# Altium footprint library WR-CRD.PcbLib: 21 footprints (part 1 of 2)
Each footprint in its own frame and in the unit in brackets; x right, y up, seen from the top. Pads: shape width x height; smd on the part's side, far side on the other; paste and mask are expansions set on the pad; w line width, h text height; cw(c..) or ccw(c..) is an arc to the next point about the centre after c.
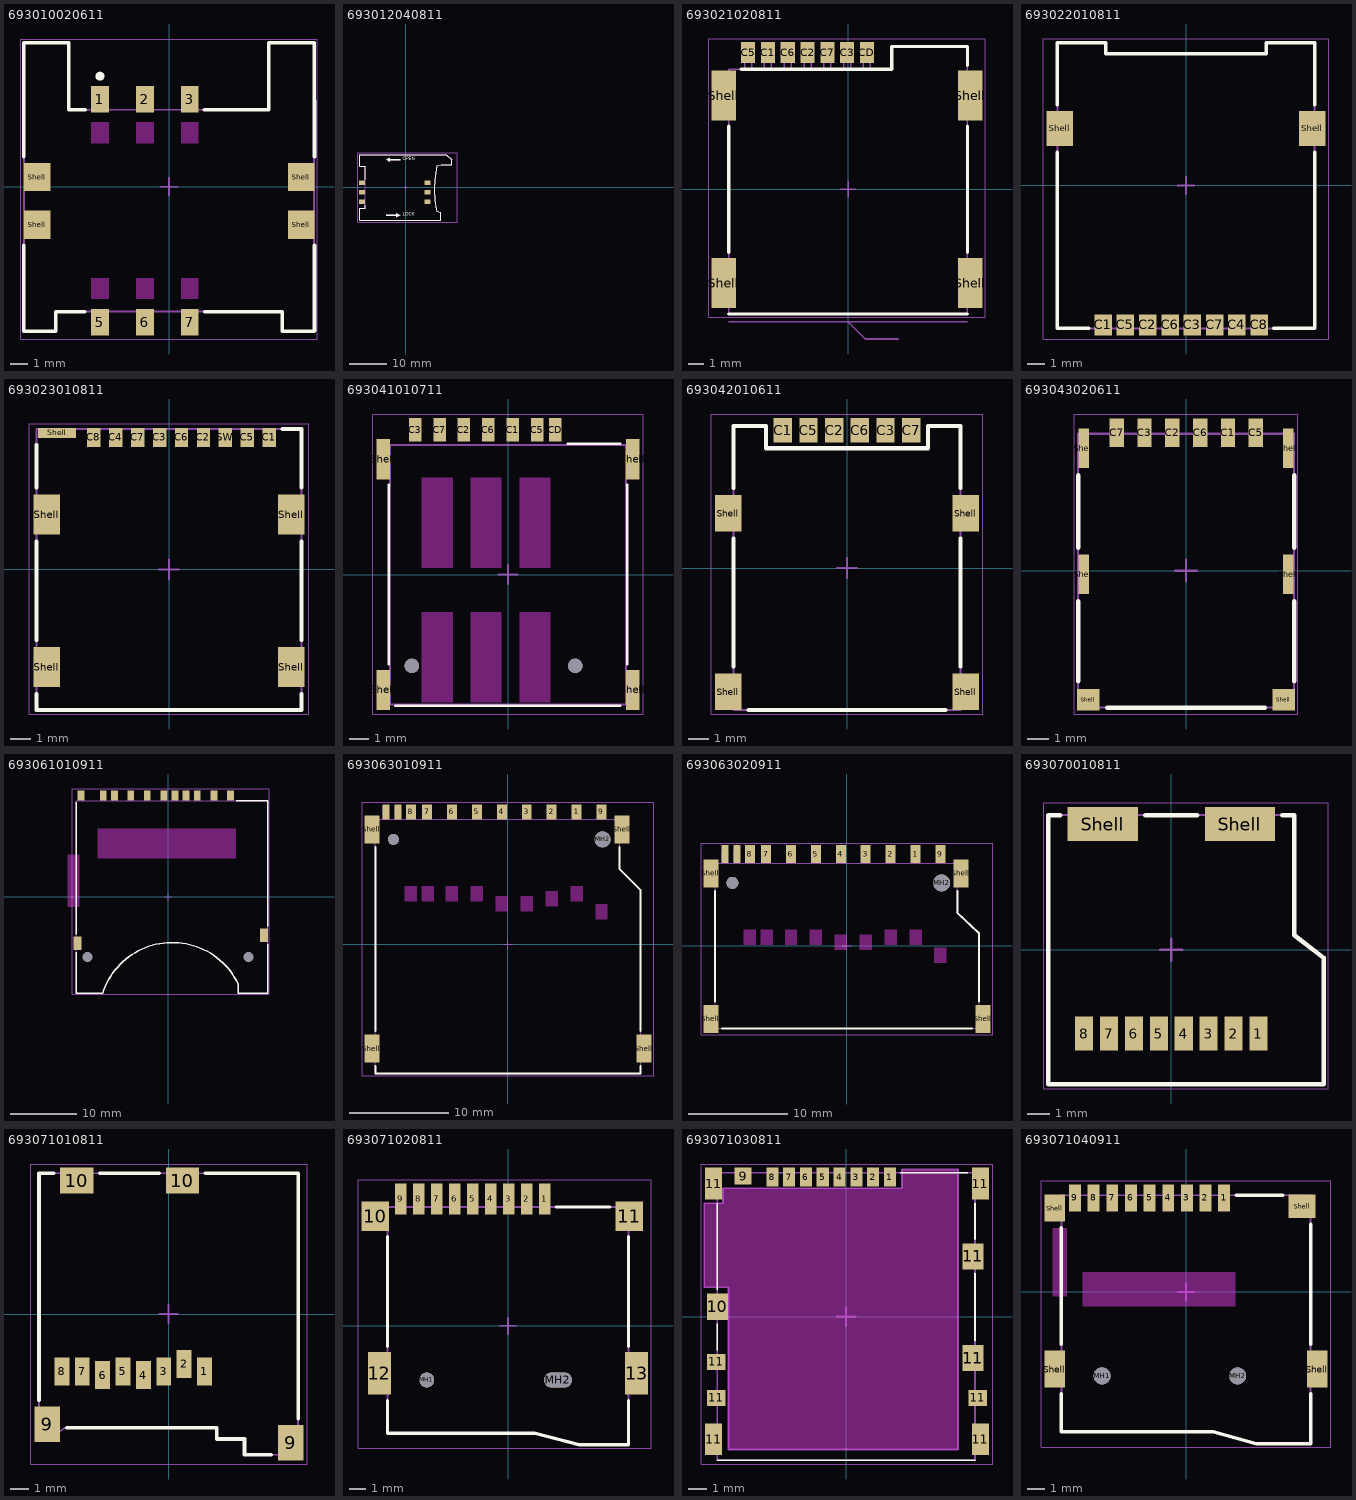
[diagram p0: the footprints below, top view; thin cyan lines are the x and y axes]

## 693010020611 [mm] "SIM CARD CONNECTOR HEADER SHIELD ED 6PINS"
height 1.8
pads (10):
  rect 1x1.5 smd: 1(-3.9,4.95) 2(-1.36,4.95) 3(1.18,4.95) 5(-3.9,-7.65) 6(-1.36,-7.65) 7(1.18,-7.65)
  rect 1.5x1.6 smd: Shell(-7.44,-2.15) Shell(-7.44,0.55) Shell(7.46,-2.15) Shell(7.46,0.55)
Top Layer keep-out:
  rectangle: 0.68,2.45 1.68,3.65
  rectangle: -1.86,2.45 -0.86,3.65
  rectangle: -4.4,2.45 -3.4,3.65
  region: 1.68,-5.15 0.68,-5.15 0.68,-6.35 1.68,-6.35
  region: -0.86,-5.15 -1.86,-5.15 -1.86,-6.35 -0.86,-6.35
  region: -3.4,-5.15 -4.4,-5.15 -4.4,-6.35 -3.4,-6.35
Top Overlay:
  circle w0.25: c-3.9,6.25 r0.125
  lines w0.2: -8.2,-3.3 -8.2,-8.15 -6.4,-8.15 -6.4,-7.05 -4.75,-7.05 ; -8.2,1.7 -8.2,8.15 -5.67,8.15 -5.67,4.35 -4.72,4.35 ; 2,4.35 5.63,4.35 5.63,8.15 ; 2.03,-7.05 6.4,-7.05 6.4,-8.15 8.2,-8.15 8.22,-8.13 8.22,-3.3 ; 8.22,1.7 8.2,8.15 5.63,8.15 ; 5.63,8.15 5.63,8.15
Top Assembly:
  lines w0.1: -4.2,-7.05 -4.2,-8.05 -3.6,-8.05 -3.6,-7.05 ; -4.2,4.35 -4.2,5.35 -3.6,5.35 -3.6,4.35 ; -1.66,-7.05 -1.66,-8.05 -1.06,-8.05 -1.06,-7.05 ; -1.66,4.35 -1.66,5.35 -1.06,5.35 -1.06,4.35 ; 0.88,-7.05 0.88,-8.05 1.48,-8.05 1.48,-7.05 ; 0.88,4.35 0.88,5.35 1.48,5.35 1.48,4.35 ; 5.63,8.15 5.63,4.35 -5.67,4.35 -5.67,8.15 -8.2,8.15 -8.2,-8.15 -6.4,-8.15 -6.4,-7.05 6.4,-7.05 6.4,-8.15 8.2,-8.15 8.2,8.15 5.63,8.15 ; 5.63,8.15 5.63,8.15
Top Designator:
  text ".Designator" at -3.647,-0.357 h1
Top 3D Body:
  lines w0.1: -4.2,-7.05 -4.2,-8.05 -3.6,-8.05 -3.6,-7.05 ; -4.2,4.35 -4.2,5.35 -3.6,5.35 -3.6,4.35 ; -1.66,-7.05 -1.66,-8.05 -1.06,-8.05 -1.06,-7.05 ; -1.66,4.35 -1.66,5.35 -1.06,5.35 -1.06,4.35 ; 0.88,-7.05 0.88,-8.05 1.48,-8.05 1.48,-7.05 ; 0.88,4.35 0.88,5.35 1.48,5.35 1.48,4.35 ; 5.63,8.15 5.63,4.35 -5.67,4.35 -5.67,8.15 -8.2,8.15 -8.2,-8.15 -6.4,-8.15 -6.4,-7.05 6.4,-7.05 6.4,-8.15 8.2,-8.15 8.2,8.15 5.63,8.15 ; 5.63,8.15 5.63,8.15
Top Courtyard:
  lines w0.05: -8.39,-8.6 8.39,-8.6 8.39,8.35 -8.39,8.35 -8.39,-8.6
Top Component Center:
  lines w0.1: -0.5,0 0.5,0 ; 0,-0.5 0,0.5
3D body "693010020611.stp": height 1.83, standoff -0.02, extent -8.2,-8.15 8.2,8.15

## 693012040811 [mm] "Mini SIM_Hinge type_6 pins"
height 1.8
pads (6):
  rect 1.6x1.2 smd: C1(-11.75,-3.9) C2(-11.75,-1.36) C3(-11.75,1.18) C5(5.75,-3.9) C6(5.75,-1.36) C7(5.75,1.18)
Top Overlay:
  region: -1.55,-7.459 -2.05,-7.709 -2.55,-7.959 -2.55,-7.609 -5.3,-7.609 -5.3,-7.309 -2.55,-7.309 -2.55,-6.959 -2.05,-7.459 -2.55,-6.959
  region: -5.3,7.341 -4.8,7.591 -4.3,7.841 -4.3,7.491 -1.55,7.491 -1.55,7.191 -4.3,7.191 -4.3,6.841 -4.8,7.341 -4.3,6.841
  lines w0.2: -12.3,-8.859 -12.3,-5.579 -10.9,-5.579 -10.9,-4.829 ; -12.3,8.741 -12.3,5.561 -10.9,5.561 -10.9,2.071 ; -12.28,-8.859 9.25,-8.859 9.25,-6.609 8.255,-6.434 cw(c34.968,0.068) 7.994,-5.25 cw(c37.494,-0.456) 8.252,5.719 ; -12.28,8.741 10.85,8.741 12.302,7.338 12.302,6.089 9.45,6.089 8.251,5.722
  text "LOCK" at -0.9,-7.959 h1.5
  text "OPEN" at -0.9,6.841 h1.5
Top Assembly:
  region: -5.3,7.341 -4.8,7.591 -4.3,7.841 -4.3,7.491 -1.55,7.491 -1.55,7.191 -4.3,7.191 -4.3,6.841 -4.8,7.341 -4.3,6.841
  region: -1.55,-7.459 -2.05,-7.709 -2.55,-7.959 -2.55,-7.609 -5.3,-7.609 -5.3,-7.309 -2.55,-7.309 -2.55,-6.959 -2.05,-7.459 -2.55,-6.959
  lines w0.1: -12.3,-8.859 -12.3,-5.579 -10.9,-5.579 -10.9,5.561 -12.3,5.561 -12.3,8.741 ; -12.28,-8.859 9.25,-8.859 9.25,-6.609 8.255,-6.434 cw(c34.968,0.068) 7.994,-5.25 cw(c37.494,-0.456) 8.252,5.719 ; -12.28,8.741 10.85,8.741 12.302,7.338 12.302,6.089 9.45,6.089 8.251,5.722
  text "OPEN" at -0.9,6.841 h1.5
  text "LOCK" at -0.9,-7.959 h1.5
Top Designator:
  text ".Designator" at -3.647,-0.357 h1
Top 3D Body:
  region: -5.3,7.341 -4.8,7.591 -4.3,7.841 -4.3,7.491 -1.55,7.491 -1.55,7.191 -4.3,7.191 -4.3,6.841 -4.8,7.341 -4.3,6.841
  region: -1.55,-7.459 -2.05,-7.709 -2.55,-7.959 -2.55,-7.609 -5.3,-7.609 -5.3,-7.309 -2.55,-7.309 -2.55,-6.959 -2.05,-7.459 -2.55,-6.959
  lines w0.1: -12.3,-8.859 -12.3,-5.579 -10.9,-5.579 -10.9,5.561 -12.3,5.561 -12.3,8.741 ; -12.28,-8.859 9.25,-8.859 9.25,-6.609 8.255,-6.434 cw(c34.968,0.068) 7.994,-5.25 cw(c37.494,-0.456) 8.252,5.719 ; -12.28,8.741 10.85,8.741 12.302,7.338 12.302,6.089 9.45,6.089 8.251,5.722
  text "OPEN" at -0.9,6.841 h1.5
  text "LOCK" at -0.9,-7.959 h1.5
Top Courtyard:
  lines w0.05: -12.8,-9.409 -12.8,9.291 13.7,9.291 13.7,-9.409 -12.8,-9.409
Top Component Center:
  lines w0.1: -0.5,0 0.5,0 ; 0,-0.5 0,0.5
3D body "693012040811.stp": height 1.85, standoff -0.04, extent -12.3,-8.859 12.3,8.859

## 693021020811 [mm] "MicroSIM Card  Connector SMT"
height 1.35
pads (11):
  rect 0.9x1.35 smd: C1(-5.14,8.765) C2(-2.6,8.765) C3(-0.06,8.765) C5(-6.41,8.765) C6(-3.87,8.765) C7(-1.33,8.765) CD(1.21,8.765)
  rect 1.55x3.2 smd: Shell(-7.97,-6.01) Shell(-7.97,6.01) Shell(7.83,-6.01) Shell(7.83,6.01)
Top Overlay:
  lines w0.2: -7.65,-8 7.65,-8 ; -7.65,-4.05 -7.65,4.05 ; -6.85,7.7 2.8,7.7 2.8,9.16 7.65,9.16 7.65,7.95 ; 7.65,-4.05 7.65,4.05
Assembly Notes:
  lines w0.1: -7.65,-8.5 7.65,-8.5 ; 0,-8.5 1.1,-9.6 3.2,-9.6
  text "PCB EDGE" at 3.549,-9.92 h1
Top Assembly:
  lines w0.1: -7.65,-6.76 -8.25,-6.76 -8.25,-5.26 -7.65,-5.26 ; -7.65,5.26 -8.25,5.26 -8.25,6.76 -7.65,6.76 ; -6.635,7.7 -6.635,9 -6.185,9 -6.185,7.7 ; -5.365,7.7 -5.365,9 -4.915,9 -4.915,7.7 ; -4.095,7.7 -4.095,9 -3.645,9 -3.645,7.7 ; -2.825,7.7 -2.825,9 -2.375,9 -2.375,7.7 ; -1.555,7.7 -1.555,9 -1.105,9 -1.105,7.7 ; -0.285,7.7 -0.285,9 0.165,9 0.165,7.7 ; 0.985,7.7 0.985,9 1.435,9 1.435,7.7 ; 7.65,-6.76 8.25,-6.76 8.25,-5.26 7.65,-5.26 ; 7.65,5.26 8.25,5.26 8.25,6.76 7.65,6.76 ; -7.65,-8 -7.65,7.7 2.8,7.7 2.8,9.16 7.65,9.16 7.65,-8 -7.65,-8
Top Designator:
  text ".Designator" at -3.647,-0.357 h1
Top 3D Body:
  lines w0.1: -7.65,-6.76 -8.25,-6.76 -8.25,-5.26 -7.65,-5.26 ; -7.65,5.26 -8.25,5.26 -8.25,6.76 -7.65,6.76 ; -6.635,7.7 -6.635,9 -6.185,9 -6.185,7.7 ; -5.365,7.7 -5.365,9 -4.915,9 -4.915,7.7 ; -4.095,7.7 -4.095,9 -3.645,9 -3.645,7.7 ; -2.825,7.7 -2.825,9 -2.375,9 -2.375,7.7 ; -1.555,7.7 -1.555,9 -1.105,9 -1.105,7.7 ; -0.285,7.7 -0.285,9 0.165,9 0.165,7.7 ; 0.985,7.7 0.985,9 1.435,9 1.435,7.7 ; 7.65,-6.76 8.25,-6.76 8.25,-5.26 7.65,-5.26 ; 7.65,5.26 8.25,5.26 8.25,6.76 7.65,6.76 ; -7.65,-8 -7.65,7.7 2.8,7.7 2.8,9.16 7.65,9.16 7.65,-8 -7.65,-8
Top Courtyard:
  lines w0.05: -8.945,-8.2 -8.945,9.64 8.805,9.64 8.805,-8.2 -8.945,-8.2
Top Component Center:
  lines w0.1: -0.5,0 0.5,0 ; 0,-0.5 0,0.5
3D body "693021020811.stp": height 1.32, standoff -0.03, extent -8.275,-8 8.224,9.16

## 693022010811 [mm] "Micro SIM Card Connector (Mega SIM) Hinge - 8 Pins"
height 1.95
pads (10):
  rect 1x1.2 smd: C1(-4.72,-7.95) C2(-2.18,-7.95) C3(0.36,-7.95) C4(2.9,-7.95) C5(-3.45,-7.95) C6(-0.91,-7.95) C7(1.63,-7.95) C8(4.17,-7.95)
  rect 1.5x2 smd: Shell(-7.2,3.25) Shell(7.2,3.25)
Top Overlay:
  lines w0.2: -7.33,1.9 -7.33,-8.15 -5.55,-8.15 ; -7.33,4.6 -7.33,8.15 -4.58,8.15 -4.58,7.5 4.58,7.5 4.58,8.15 7.33,8.15 7.33,4.6 ; 5,-8.15 7.33,-8.15 7.33,1.9
Top Assembly:
  lines w0.1: -7.33,-8.15 -7.33,8.15 -4.58,8.15 -4.58,7.5 4.58,7.5 4.58,8.15 7.33,8.15 7.33,-8.15 -7.33,-8.15
Top Designator:
  text ".Designator" at -3.647,-0.357 h1
Top 3D Body:
  lines w0.1: -7.33,-8.15 -7.33,8.15 -4.58,8.15 -4.58,7.5 4.58,7.5 4.58,8.15 7.33,8.15 7.33,-8.15 -7.33,-8.15
Top Courtyard:
  lines w0.05: -8.15,-8.75 8.15,-8.75 8.15,8.35 -8.15,8.35 -8.15,-8.75
Top Component Center:
  lines w0.1: -0.5,0 0.5,0 ; 0,-0.5 0,0.5
3D body "693022010811.stp": height 2.09, standoff -0.04, extent -7.7,-8.16 7.7,8.14

## 693023010811 [mm] "Micro SIM Card Connector (Mega SIM) Push & Pull - with Card Detection - 8 Pins"
height 0.76
pads (14):
  rect 0.67x0.95 smd: C1(5.03,6.625) C2(1.73,6.625) C3(-0.47,6.625) C4(-2.67,6.625) C5(3.93,6.625) C6(0.63,6.625) C7(-1.57,6.625) C8(-3.77,6.625) SW(2.83,6.625)
  rect 1.35x2 smd: Shell(-6.13,-4.9) Shell(-6.13,2.75) Shell(6.13,-4.9) Shell(6.13,2.75)
  rect 1.89x0.5 smd: Shell(-5.615,6.85)
Top Overlay:
  lines w0.2: -6.65,-6.25 -6.65,-7.05 6.65,-7.05 6.65,-6.25 ; -6.65,-3.55 -6.65,1.4 ; -6.65,4.1 -6.65,6.25 ; 5.7,7.05 6.65,7.05 6.65,4.1 ; 6.65,-3.55 6.65,1.4
Top Assembly:
  lines w0.1: -6.65,-7.05 -6.65,7.05 6.65,7.05 6.65,-7.05 -6.65,-7.05
Top Designator:
  text ".Designator" at -3.647,-0.357 h1
Top 3D Body:
  lines w0.1: -6.65,-7.05 -6.65,7.05 6.65,7.05 6.65,-7.05 -6.65,-7.05
Top Courtyard:
  lines w0.05: -7.005,-7.25 -7.005,7.3 7.005,7.3 7.005,-7.25 -7.005,-7.25
Top Component Center:
  lines w0.1: -0.5,0 0.5,0 ; 0,-0.5 0,0.5
3D body "693023010811.stp": height 1.3, standoff 0.03, extent -6.65,-7.05 6.65,7.05

## 693041010711 [mm] "NanoSIM Push-Push CD SMT"
height 1.37
pads (13):
  rect 0.65x1.23 smd: C1(0.25,7.54) C2(-2.29,7.54) C3(-4.83,7.54) C5(1.52,7.54) C6(-1.02,7.54) C7(-3.56,7.54) CD(2.47,7.54)
  round 0.75 hole 0.75 unplated: NPTH1(-5,-4.75) NPTH2(3.5,-4.75)
  rect 0.7x2.1 smd: Shell(-6.495,-6) Shell(-6.495,6) Shell(6.495,-6) Shell(6.495,6)
Top Layer keep-out:
  region: -1.94,-1.95 -0.34,-1.95 -0.34,-6.65 -1.94,-6.65
  region: -4.48,-1.95 -2.88,-1.95 -2.88,-6.65 -4.48,-6.65
  region: 0.6,-1.95 2.2,-1.95 2.2,-6.65 0.6,-6.65
  region: -1.94,5.05 -0.34,5.05 -0.34,0.35 -1.94,0.35
  region: -4.48,5.05 -2.88,5.05 -2.88,0.35 -4.48,0.35
  region: 0.6,5.05 2.2,5.05 2.2,0.35 0.6,0.35
Top Overlay:
  lines w0.127: -6.208,-4.663 -6.208,4.687 ; -5.858,-6.813 5.841,-6.813 ; 3.1,6.813 5.85,6.813 ; 6.208,-4.663 6.208,4.687
Top Assembly:
  lines w0.1: -6.145,-6.75 6.145,-6.75 6.145,6.75 -6.145,6.75 -6.145,-6.75
Top Designator:
  text ".Designator" at -3.647,-0.357 h1
Top 3D Body:
  lines w0.1: -6.145,-6.75 6.145,-6.75 6.145,6.75 -6.145,6.75 -6.145,-6.75
Top Courtyard:
  lines w0.05: -7.045,-7.25 7.045,-7.25 7.045,8.355 -7.045,8.355 -7.045,-7.25
Top Component Center:
  lines w0.1: -0.5,0 0.5,0 ; 0,-0.5 0,0.5
3D body "693041010711.stp": height 1.47, standoff -0.4, extent -6.545,-6.75 6.545,7.85

## 693042010611 [mm] "NanoSIM Hinge SMT"
height 1.5
pads (10):
  rect 0.9x1.2 smd: C1(-3.175,6.8) C2(-0.635,6.8) C3(1.905,6.8) C5(-1.905,6.8) C6(0.635,6.8) C7(3.175,6.8)
  rect 1.3x1.8 smd: Shell(-5.85,-6.1) Shell(-5.85,2.7) Shell(5.85,-6.1) Shell(5.85,2.7)
Top Overlay:
  lines w0.2: -5.6,-4.85 -5.6,1.45 ; -5.6,3.95 -5.6,7 -4,7 -4,5.91 4,5.91 4,7 5.6,7 5.6,3.95 ; -4.85,-7 4.85,-7 ; 5.6,-4.85 5.6,1.45
Top Assembly:
  lines w0.1: -5.6,-7 5.6,-7 5.6,7 4,7 4,5.91 -4,5.91 -4,7 -5.6,7 -5.6,-7
Top Designator:
  text ".Designator" at -3.647,-0.357 h1
Top 3D Body:
  lines w0.1: -5.6,-7 5.6,-7 5.6,7 4,7 4,5.91 -4,5.91 -4,7 -5.6,7 -5.6,-7
Top Courtyard:
  lines w0.05: -6.7,-7.2 6.7,-7.2 6.7,7.6 -6.7,7.6 -6.7,-7.2
Top Component Center:
  lines w0.1: -0.5,0 0.5,0 ; 0,-0.5 0,0.5
3D body "693042010611.stp": height 1.51, standoff 0, extent -6.2,-7 6.2,7.1

## 693043020611 [mm] "Nano SIM Card Connector Push & Pull - 6 Pins"
height 1.2
pads (12):
  rect 0.65x1.3 smd: C1(1.91,6.3) C2(-0.63,6.3) C3(-1.9,6.3) C5(3.18,6.3) C6(0.64,6.3) C7(-3.17,6.3)
  rect 0.48x1.8 smd: Shell(-4.67,-0.17) Shell(-4.67,5.58) Shell(4.66,-0.17) Shell(4.66,5.58)
  rect 1.03x1 smd: Shell(-4.465,-5.89) Shell(4.465,-5.89)
Top Overlay:
  lines w0.2: -4.93,-5.05 -4.93,-1.4 ; -4.93,1.05 -4.93,4.35 ; -3.6,-6.25 3.6,-6.25 ; 4.93,-5.05 4.93,-1.4 ; 4.93,1.05 4.93,4.35
Top Assembly:
  lines w0.1: -4.93,-6.25 4.93,-6.25 4.93,6.25 -4.93,6.25 -4.93,-6.25
Top Designator:
  text ".Designator" at -3.647,-0.357 h1
Top 3D Body:
  lines w0.1: -4.93,-6.25 4.93,-6.25 4.93,6.25 -4.93,6.25 -4.93,-6.25
Top Courtyard:
  lines w0.05: -5.105,-6.54 -5.105,7.15 5.105,7.15 5.105,-6.54 -5.105,-6.54
Top Component Center:
  lines w0.1: -0.5,0 0.5,0 ; 0,-0.5 0,0.5
3D body "693043020611.stp": height 1.2, standoff -0.01, extent -4.926,-6.25 4.936,6.25

## 693061010911 [mm] "SD Card Connector Push & Push - with Card Detection - 9 Pins"
height 2.9
pads (15):
  rect 1x1.5 smd: 1(6.9,15.26) 2(4.4,15.26) 3(1.05,15.26) 4(-0.6,15.26) 5(-3.1,15.26) 6(-5.6,15.26) 7(-8.03,15.26) 8(-9.73,15.26) 9(9.4,15.26) CD(2.7,15.26) WP(-13.08,15.26)
  round 1.4 hole 1.5 unplated: MH1(-12.1,-9.05) MH2(12.1,-9.05)
  rect 1.2x2 smd: Shell(-13.6,-6.95) Shell(14.4,-5.75)
Top Layer keep-out:
  rectangle: -15.1,-1.55 -13.3,6.4
  rectangle: -10.58,5.8 10.25,10.3
Top Overlay:
  lines w0.2: -13.8,-8.3 -13.8,-14.45 -9.827,-14.45 ; -13.8,-5.6 -13.8,14.2 ; -9.82,-14.452 cw(c0.64,-17.856) 10.531,-13.042 ; 10.25,14.45 15,14.45 15,-4.4 ; 10.53,-13.043 10.53,-14.45 15,-14.45 15,-7.1
Top Assembly:
  lines w0.1: -13.21,14.45 -13.21,15.45 -12.67,15.45 -12.67,14.45 ; -9.98,14.45 -9.98,15.6 -9.48,15.6 -9.48,14.45 ; -9.827,-14.45 -13.8,-14.45 -13.8,14.45 15,14.45 15,-14.45 10.53,-14.45 10.53,-13.043 ; -9.82,-14.452 cw(c0.64,-17.856) 10.531,-13.042 ; -8.28,14.45 -8.28,15.6 -7.78,15.6 -7.78,14.45 ; -5.85,14.45 -5.85,15.6 -5.35,15.6 -5.35,14.45 ; -3.35,14.45 -3.35,15.6 -2.85,15.6 -2.85,14.45 ; -0.85,14.45 -0.85,15.6 -0.35,15.6 -0.35,14.45 ; 0.8,14.45 0.8,15.6 1.3,15.6 1.3,14.45 ; 2.45,14.45 2.45,15.6 2.95,15.6 2.95,14.45 ; 4.15,14.45 4.15,15.6 4.65,15.6 4.65,14.45 ; 6.65,14.45 6.65,15.6 7.15,15.6 7.15,14.45 ; 9.15,14.45 9.15,15.6 9.65,15.6 9.65,14.45
Top Designator:
  text ".Designator" at -3.647,-0.357 h1
Top 3D Body:
  lines w0.1: -13.21,14.45 -13.21,15.45 -12.67,15.45 -12.67,14.45 ; -9.98,14.45 -9.98,15.6 -9.48,15.6 -9.48,14.45 ; -9.827,-14.45 -13.8,-14.45 -13.8,14.45 15,14.45 15,-14.45 10.53,-14.45 10.53,-13.043 ; -9.82,-14.452 cw(c0.64,-17.856) 10.531,-13.042 ; -8.28,14.45 -8.28,15.6 -7.78,15.6 -7.78,14.45 ; -5.85,14.45 -5.85,15.6 -5.35,15.6 -5.35,14.45 ; -3.35,14.45 -3.35,15.6 -2.85,15.6 -2.85,14.45 ; -0.85,14.45 -0.85,15.6 -0.35,15.6 -0.35,14.45 ; 0.8,14.45 0.8,15.6 1.3,15.6 1.3,14.45 ; 2.45,14.45 2.45,15.6 2.95,15.6 2.95,14.45 ; 4.15,14.45 4.15,15.6 4.65,15.6 4.65,14.45 ; 6.65,14.45 6.65,15.6 7.15,15.6 7.15,14.45 ; 9.15,14.45 9.15,15.6 9.65,15.6 9.65,14.45
Top Courtyard:
  lines w0.05: -14.4,-14.65 -14.4,16.21 15.2,16.21 15.2,-14.65 -14.4,-14.65
Top Component Center:
  lines w0.1: -0.5,0 0.5,0 ; 0,-0.5 0,0.5
3D body "693061010911.stp": height 2.94, standoff -0.46, extent -13.86,-14.45 15.04,15.599

## 693063010911 [mm] "SD Card Connector Push & Pull - with Card Detection - 9 Pins"
height 2.6
pads (17):
  rect 1x1.5 smd: 1(6.88,13.3) 2(4.38,13.3) 3(1.88,13.3) 4(-0.62,13.3) 5(-3.12,13.3) 6(-5.62,13.3) 7(-8.12,13.3) 8(-9.75,13.3) 9(9.38,13.3)
  rect 0.7x1.5 smd: 10(-11.05,13.3) 11(-12.25,13.3)
  round 1.1 hole 1.1 unplated: MH1(-11.5,10.55)
  round 1.6 hole 1.6 unplated: MH2(9.5,10.55)
  rect 1.5x2.8 smd: Shell(-13.65,-10.45) Shell(-13.65,11.55) Shell(11.45,11.55) Shell(13.65,-10.45)
Top Layer keep-out:
  region: 8.78,4.05 9.98,4.05 9.98,2.55 8.78,2.55
  region: -10.35,5.85 -9.15,5.85 -9.15,4.35 -10.35,4.35
  region: -8.65,5.85 -7.45,5.85 -7.45,4.35 -8.65,4.35
  region: -6.225,5.85 -5.025,5.85 -5.025,4.35 -6.225,4.35
  region: -3.725,5.85 -2.525,5.85 -2.525,4.35 -3.725,4.35
  region: 6.275,5.85 7.475,5.85 7.475,4.35 6.275,4.35
  region: 3.775,5.35 4.975,5.35 4.975,3.85 3.775,3.85
  region: 1.275,4.85 2.475,4.85 2.475,3.35 1.275,3.35
  region: -1.225,4.85 -0.025,4.85 -0.025,3.35 -1.225,3.35
Top Overlay:
  lines w0.2: -13.3,-12.2 -13.3,-12.95 13.3,-12.95 13.3,-12.2 ; -13.3,-8.7 -13.3,9.8 ; 11.2,9.8 11.2,7.55 13.3,5.45 13.3,-8.7
Top Assembly:
  lines w0.1: -13.3,-11.45 -14,-11.45 -14,-9.45 -13.3,-9.45 ; -13.3,10.55 -14,10.55 -14,12.55 -13.3,12.55 ; -12.525,12.55 -12.525,13.85 -11.975,13.85 -11.975,12.55 ; -11.325,12.55 -11.325,13.85 -10.775,13.85 -10.775,12.55 ; -10.025,12.55 -10.025,13.85 -9.475,13.85 -9.475,12.55 ; -8.395,12.55 -8.395,13.85 -7.845,13.85 -7.845,12.55 ; -5.895,12.55 -5.895,13.85 -5.345,13.85 -5.345,12.55 ; -3.395,12.55 -3.395,13.85 -2.845,13.85 -2.845,12.55 ; -0.895,12.55 -0.895,13.85 -0.345,13.85 -0.345,12.55 ; 1.605,12.55 1.605,13.85 2.155,13.85 2.155,12.55 ; 4.105,12.55 4.105,13.85 4.655,13.85 4.655,12.55 ; 6.605,12.55 6.605,13.85 7.155,13.85 7.155,12.55 ; 9.105,12.55 9.105,13.85 9.655,13.85 9.655,12.55 ; 11.2,10.55 11.9,10.55 11.9,12.55 11.2,12.55 ; 13.3,-11.45 14,-11.45 14,-9.45 13.3,-9.45 ; -13.3,12.55 11.2,12.55 ; -13.3,12.55 -13.3,-12.95 13.3,-12.95 13.3,5.45 11.2,7.55 11.2,12.55
Top Designator:
  text ".Designator" at -3.647,-0.357 h1
Top 3D Body:
  lines w0.1: -13.3,-11.45 -14,-11.45 -14,-9.45 -13.3,-9.45 ; -13.3,10.55 -14,10.55 -14,12.55 -13.3,12.55 ; -12.525,12.55 -12.525,13.85 -11.975,13.85 -11.975,12.55 ; -11.325,12.55 -11.325,13.85 -10.775,13.85 -10.775,12.55 ; -10.025,12.55 -10.025,13.85 -9.475,13.85 -9.475,12.55 ; -8.395,12.55 -8.395,13.85 -7.845,13.85 -7.845,12.55 ; -5.895,12.55 -5.895,13.85 -5.345,13.85 -5.345,12.55 ; -3.395,12.55 -3.395,13.85 -2.845,13.85 -2.845,12.55 ; -0.895,12.55 -0.895,13.85 -0.345,13.85 -0.345,12.55 ; 1.605,12.55 1.605,13.85 2.155,13.85 2.155,12.55 ; 4.105,12.55 4.105,13.85 4.655,13.85 4.655,12.55 ; 6.605,12.55 6.605,13.85 7.155,13.85 7.155,12.55 ; 9.105,12.55 9.105,13.85 9.655,13.85 9.655,12.55 ; 11.2,10.55 11.9,10.55 11.9,12.55 11.2,12.55 ; 13.3,-11.45 14,-11.45 14,-9.45 13.3,-9.45 ; -13.3,12.55 11.2,12.55 ; -13.3,12.55 -13.3,-12.95 13.3,-12.95 13.3,5.45 11.2,7.55 11.2,12.55
Top Courtyard:
  lines w0.05: -14.6,-13.15 14.6,-13.15 14.6,14.25 -14.6,14.25 -14.6,-13.15
Top Component Center:
  lines w0.1: -0.5,0 0.5,0 ; 0,-0.5 0,0.5
3D body "693063010911.stp": height 3.28, standoff -0.82, extent -13.9,-12.95 13.9,13.75

## 693063020911 [mm] "SD Card Connector Push & Pull - Short Type - with Card Detection - 9 Pins"
height 2.8
pads (17):
  rect 1x1.8 smd: 1(6.875,9.2) 2(4.375,9.2) 3(1.875,9.2) 4(-0.625,9.2) 5(-3.125,9.2) 6(-5.625,9.2) 7(-8.125,9.2) 8(-9.745,9.2) 9(9.375,9.2)
  rect 0.7x1.8 smd: 10(-11.045,9.2) 11(-12.245,9.2)
  round 1.2 hole 1.2 unplated: MH1(-11.5,6.3)
  round 1.7 hole 1.7 unplated: MH2(9.5,6.3)
  rect 1.5x2.8 smd: Shell(-13.65,-7.35) Shell(-13.65,7.25) Shell(11.45,7.25) Shell(13.65,-7.35)
Top Layer keep-out:
  region: 3.775,1.6 4.975,1.6 4.975,0.1 3.775,0.1
  region: 6.275,1.6 7.475,1.6 7.475,0.1 6.275,0.1
  region: -3.72,1.6 -2.52,1.6 -2.52,0.1 -3.72,0.1
  region: -6.22,1.6 -5.02,1.6 -5.02,0.1 -6.22,0.1
  region: -8.645,1.6 -7.445,1.6 -7.445,0.1 -8.645,0.1
  region: -10.345,1.6 -9.145,1.6 -9.145,0.1 -10.345,0.1
  region: 1.275,1.1 2.475,1.1 2.475,-0.4 1.275,-0.4
  region: -1.225,1.1 -0.025,1.1 -0.025,-0.4 -1.225,-0.4
  region: 8.775,-0.2 9.975,-0.2 9.975,-1.7 8.775,-1.7
Top Overlay:
  lines w0.2: -13.23,-5.6 -13.23,5.5 ; -12.55,-8.3 12.55,-8.3 ; 11.07,5.5 11.07,3.3 13.254,1.228 13.254,-5.596
Top Assembly:
  lines w0.1: -13.23,-7.85 -13.83,-7.85 -13.83,-6.3 -13.23,-6.3 ; -13.23,6.3 -13.83,6.3 -13.83,8.3 -13.23,8.3 ; -12.495,8.3 -12.495,9.6 -11.995,9.6 -11.995,8.3 ; -11.295,8.3 -11.295,9.6 -10.795,9.6 -10.795,8.3 ; -9.995,8.3 -9.995,9.6 -9.495,9.6 -9.495,8.3 ; -8.375,8.3 -8.375,9.6 -7.875,9.6 -7.875,8.3 ; -5.875,8.3 -5.875,9.6 -5.375,9.6 -5.375,8.3 ; -3.375,8.3 -3.375,9.6 -2.875,9.6 -2.875,8.3 ; -0.875,8.3 -0.875,9.6 -0.375,9.6 -0.375,8.3 ; 1.625,8.3 1.625,9.6 2.125,9.6 2.125,8.3 ; 4.125,8.3 4.125,9.6 4.625,9.6 4.625,8.3 ; 6.625,8.3 6.625,9.6 7.125,9.6 7.125,8.3 ; 9.125,8.3 9.125,9.6 9.625,9.6 9.625,8.3 ; 11.07,6.3 11.67,6.3 11.67,8.3 11.07,8.3 ; 13.25,-7.85 13.85,-7.85 13.85,-6.3 13.25,-6.3 ; 13.25,1.228 13.25,-8.3 -13.23,-8.3 -13.23,8.3 ; 13.254,1.228 11.07,3.3 11.07,8.3 ; -13.23,8.3 11.07,8.3
Top Designator:
  text ".Designator" at -3.647,-0.357 h1
Top 3D Body:
  lines w0.1: -13.23,-7.85 -13.83,-7.85 -13.83,-6.3 -13.23,-6.3 ; -13.23,6.3 -13.83,6.3 -13.83,8.3 -13.23,8.3 ; -12.495,8.3 -12.495,9.6 -11.995,9.6 -11.995,8.3 ; -11.295,8.3 -11.295,9.6 -10.795,9.6 -10.795,8.3 ; -9.995,8.3 -9.995,9.6 -9.495,9.6 -9.495,8.3 ; -8.375,8.3 -8.375,9.6 -7.875,9.6 -7.875,8.3 ; -5.875,8.3 -5.875,9.6 -5.375,9.6 -5.375,8.3 ; -3.375,8.3 -3.375,9.6 -2.875,9.6 -2.875,8.3 ; -0.875,8.3 -0.875,9.6 -0.375,9.6 -0.375,8.3 ; 1.625,8.3 1.625,9.6 2.125,9.6 2.125,8.3 ; 4.125,8.3 4.125,9.6 4.625,9.6 4.625,8.3 ; 6.625,8.3 6.625,9.6 7.125,9.6 7.125,8.3 ; 9.125,8.3 9.125,9.6 9.625,9.6 9.625,8.3 ; 11.07,6.3 11.67,6.3 11.67,8.3 11.07,8.3 ; 13.25,-7.85 13.85,-7.85 13.85,-6.3 13.25,-6.3 ; 13.25,1.228 13.25,-8.3 -13.23,-8.3 -13.23,8.3 ; 13.254,1.228 11.07,3.3 11.07,8.3 ; -13.23,8.3 11.07,8.3
Top Courtyard:
  lines w0.05: -14.6,-8.95 14.6,-8.95 14.6,10.3 -14.6,10.3 -14.6,-8.95
Top Component Center:
  lines w0.1: -0.5,0 0.5,0 ; 0,-0.5 0,0.5
3D body "693063020911.stp": height 3.13, standoff -0.53, extent -13.83,-8.3 13.82,9.7

## 693070010811 [mm] "MicroSD Push-Pull SMT Short"
height 2
pads (10):
  rect 0.8x1.5 smd: 1(3.85,-3.7) 2(2.75,-3.7) 3(1.65,-3.7) 4(0.55,-3.7) 5(-0.55,-3.7) 6(-1.65,-3.7) 7(-2.75,-3.7) 8(-3.85,-3.7)
  rect 3.1x1.5 smd: Shell(-3.03,5.55) Shell(3.03,5.55)
Top Overlay:
  lines w0.2: -4.9,5.95 -5.43,5.95 -5.43,-5.95 6.73,-5.95 6.73,-0.35 5.43,0.65 5.43,5.95 4.9,5.95 ; -1.15,5.95 1.15,5.95
Top Assembly:
  lines w0.1: -5.43,-5.95 6.73,-5.95 6.73,-0.35 5.43,0.65 5.43,5.95 -5.43,5.95 -5.43,-5.95
Top Designator:
  text ".Designator" at -3.647,-0.357 h1
Top 3D Body:
  lines w0.1: -5.43,-5.95 6.73,-5.95 6.73,-0.35 5.43,0.65 5.43,5.95 -5.43,5.95 -5.43,-5.95
Top Courtyard:
  lines w0.05: -5.63,-6.15 -5.63,6.5 6.93,6.5 6.93,-6.15 -5.63,-6.15
Top Component Center:
  lines w0.1: -0.5,0 0.5,0 ; 0,-0.5 0,0.5
3D body "693070010811.stp": height 2.02, standoff 0.02, extent -5.43,-5.95 6.733,5.956

## 693071010811 [mm] "Micro SD Card Connector Push & Push - with Card Detection - 8 Pins"
height 1.98
pads (12):
  rect 0.8x1.5 smd: 1(1.94,-3.1) 2(0.84,-2.7) 3(-0.26,-3.1) 4(-1.36,-3.3) 5(-2.46,-3.1) 6(-3.56,-3.3) 7(-4.66,-3.1) 8(-5.76,-3.1)
  rect 1.4x1.9 smd: 9(-6.55,-5.95) 9(6.6,-6.95)
  rect 1.8x1.4 smd: 10(-4.95,7.2) 10(0.75,7.2)
Top Overlay:
  lines w0.2: -7,-4.65 -7,7.6 -6.2,7.6 ; -5.5,-6.15 2.6,-6.15 2.6,-6.75 4.1,-6.75 4.1,-7.6 5.55,-7.6 ; -3.7,7.6 -0.5,7.6 ; 2,7.6 7,7.6 7,-5.65
Top Assembly:
  lines w0.1: -6.2,-6.6 -7,-6.6 -7,7.6 7,7.6 7,-7.6 4.1,-7.6 4.1,-6.75 2.6,-6.75 2.6,-6.15 -5.6,-6.15 -6.199,-6.601
Top Designator:
  text ".Designator" at -3.647,-0.357 h1
Top 3D Body:
  lines w0.1: -6.2,-6.6 -7,-6.6 -7,7.6 7,7.6 7,-7.6 4.1,-7.6 4.1,-6.75 2.6,-6.75 2.6,-6.15 -5.6,-6.15 -6.199,-6.601
Top Courtyard:
  lines w0.05: -7.45,-8.1 -7.45,8.1 7.5,8.1 7.5,-8.1 -7.45,-8.1
Top Component Center:
  lines w0.1: -0.5,0 0.5,0 ; 0,-0.5 0,0.5
3D body "693071010811.stp": height 1.85, standoff -0.05, extent -7,-7.61 7,7.6

## 693071020811 [mm] "Micro SD Card Connector Push & Push - with Card Detection - 8 Pins"
height 1.85
pads (15):
  rect 0.7x1.9 smd: 1(2.25,7.75) 2(1.15,7.75) 3(0.05,7.75) 4(-1.05,7.75) 5(-2.15,7.75) 6(-3.25,7.75) 7(-4.35,7.75) 8(-5.45,7.75) 9(-6.55,7.75)
  rect 1.7x1.8 smd: 10(-8.1,6.7) 11(7.4,6.7)
  rect 1.4x2.6 smd: 12(-7.85,-2.9) 13(7.85,-2.9)
  round 0.9 hole 0.9 unplated: MH1(-4.95,-3.3)
  oval 1.7x0.9 hole 0.9 slot 1.7 at 0 deg unplated: MH2(3.05,-3.3)
Top Overlay:
  lines w0.2: -7.35,-4.55 -7.35,-6.55 1.65,-6.55 4.35,-7.248 ; -7.35,-1.25 -7.35,5.45 ; 2.95,7.25 6.2,7.25 ; 4.35,-7.25 7.35,-7.25 7.35,-4.55 ; 7.35,-1.25 7.35,5.45
Top Assembly:
  lines w0.1: 4.35,-7.25 7.35,-7.25 7.35,7.25 -7.35,7.25 -7.35,-6.55 1.65,-6.55 4.35,-7.248
Top Designator:
  text ".Designator" at -3.647,-0.357 h1
Top 3D Body:
  lines w0.1: 4.35,-7.25 7.35,-7.25 7.35,7.25 -7.35,7.25 -7.35,-6.55 1.65,-6.55 4.35,-7.248
Top Courtyard:
  lines w0.05: -9.15,-7.45 -9.15,8.9 8.75,8.9 8.75,-7.45 -9.15,-7.45
Top Component Center:
  lines w0.1: -0.5,0 0.5,0 ; 0,-0.5 0,0.5
3D body "693071020811.stp": height 1.85, standoff -0.63, extent -8.2,-7.3 8.2,7.726

## 693071030811 [mm] "Micro SD Card Connector"
height 1.3
pads (19):
  rect 0.65x1 smd: 1(2.35,7.47) 2(1.45,7.47) 3(0.55,7.47) 4(-0.35,7.47) 5(-1.25,7.47) 6(-2.15,7.47) 7(-3.05,7.47) 8(-3.95,7.47)
  rect 0.9x0.9 smd: 9(-5.52,7.52)
  rect 1.13x1.4 smd: 10(-6.89,0.52) 11(6.79,-2.23) 11(6.79,3.22)
  rect 0.9x1.7 smd: 11(-7.1,-6.58) 11(-7.1,7.12) 11(7.2,-6.58) 11(7.2,7.12)
  rect 1x0.85 smd: 11(-6.95,-4.36) 11(-6.95,-2.43) 11(7.05,-4.36)
Top Layer keep-out:
  region: -7.6,1.57 -7.6,6.07 -6.6,6.07 -6.6,6.87 3,6.87 3,7.87 6,7.87 6,-7.13 -6.3,-7.13 -6.3,1.57
Top Overlay:
  lines w0.1: -6.9,-7.7 6.9,-7.7 ; -6.9,-1.8 -6.9,-0.4 ; -6.9,1.45 -6.9,6.05 ; 2.9,7.7 6.5,7.7 ; 6.9,-1.3 6.9,2.3 ; 6.9,4.15 6.9,6.05
Assembly Notes:
  lines w0.1: -7.6,1.57 -7.6,6.07 -6.6,6.07 -6.6,6.87 3,6.87 3,7.87 6,7.87 6,-7.13 -6.3,-7.13 -6.3,1.57 -7.6,1.57
  text "Prohibited area" at -5.2,-0.4 h1.02
Top Assembly:
  lines w0.1: -6.9,-7.7 6.9,-7.7 6.9,7.7 -6.9,7.7 -6.9,-7.7
Top Designator:
  text ".Designator" at -3.647,-0.357 h1
Top 3D Body:
  lines w0.1: -6.9,-7.7 6.9,-7.7 6.9,7.7 -6.9,7.7 -6.9,-7.7
Top Courtyard:
  lines w0.05: -7.75,-7.9 -7.75,8.17 7.85,8.17 7.85,-7.9 -7.75,-7.9
Top Component Center:
  lines w0.1: -0.5,0 0.5,0 ; 0,-0.5 0,0.5
3D body "693071030811.stp": height 1.3, standoff 0, extent -7.36,-7.65 7.36,7.7

## 693071040911 [mm] "MicroSD push-push CD SMT"
height 1.85
pads (15):
  rect 0.7x1.6 smd: 1(2.25,5.55) 2(1.15,5.55) 3(0.05,5.55) 4(-1.05,5.55) 5(-2.15,5.55) 6(-3.25,5.55) 7(-4.35,5.55) 8(-5.45,5.55) 9(-6.55,5.55)
  round 1 hole 1 unplated: MH1(-4.95,-4.95) MH2(3.05,-4.95)
  rect 1.2x2.2 smd: Shell(-7.75,-4.55) Shell(7.75,-4.55)
  rect 1.2x1.6 smd: Shell(-7.75,4.95)
  rect 1.6x1.4 smd: Shell(6.85,5.05)
Top Layer keep-out:
  region: -6.1,1.15 2.9,1.15 2.9,-0.85 -6.1,-0.85
  region: -7.05,3.75 -7.85,3.75 -7.85,-0.25 -7.05,-0.25
Top Overlay:
  lines w0.2: -7.35,-6 -7.35,-8.25 1.6,-8.25 4.15,-8.95 7.35,-8.95 7.35,-6 ; -7.35,-3.1 -7.35,3.8 ; 2.95,5.7 5.7,5.7 ; 7.35,-3.1 7.35,4
Top Assembly:
  lines w0.1: -7.35,-8.25 1.6,-8.25 4.15,-8.95 7.35,-8.95 7.35,5.7 -7.35,5.7 -7.35,-8.25
Top Designator:
  text ".Designator" at -3.647,-0.357 h1
Top 3D Body:
  lines w0.1: -7.35,-8.25 1.6,-8.25 4.15,-8.95 7.35,-8.95 7.35,5.7 -7.35,5.7 -7.35,-8.25
Top Courtyard:
  lines w0.05: -8.55,-9.15 8.55,-9.15 8.55,6.55 -8.55,6.55 -8.55,-9.15
Top Component Center:
  lines w0.1: -0.5,0 0.5,0 ; 0,-0.5 0,0.5
3D body "693071040911.stp": height 1.9, standoff -0.55, extent -8.05,-8.95 8.05,6.05